# Altium footprint library VD.PcbLib: 2 footprints
Each footprint in its own frame and in the unit in brackets; x right, y up, seen from the top. Pads: shape width x height; smd on the part's side, far side on the other; paste and mask are expansions set on the pad; w line width, h text height; cw(c..) or ccw(c..) is an arc to the next point about the centre after c.
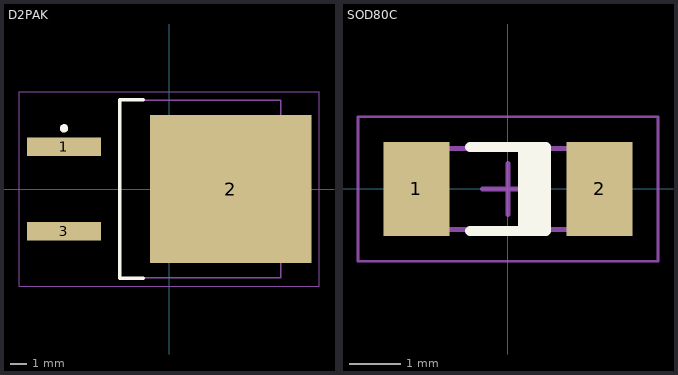
[diagram p0: the footprints below, top view; thin cyan lines are the x and y axes]

## D2PAK [mm] "D2-PAK, 3-Pads, Body 7.93x8.69mm (max), IPC Low Density"
height 4.83
pads (3):
  rect 4.45x1.1 smd: 1(-6.3,2.54) 3(-6.3,-2.54)
  rect 9.7x8.9 smd: 2(3.7,0)
Top Overlay:
  circle w0.25: c-6.3,3.64 r0.125
  lines w0.2: -1.55,-5.35 -2.95,-5.35 -2.95,5.35 -1.55,5.35
Mechanical 14:
  lines w0.1: -2.95,-5.325 -2.95,5.325 6.7,5.325 6.7,-5.325 -2.95,-5.325
Mechanical 15:
  lines w0.05: -9,-5.825 -9,5.825 9,5.825 9,-5.825 -9,-5.825
  lines w0.1: -0.5,0 0.5,0 ; 0,-0.5 0,0.5
3D body "D2PAK.step": height 5.08, standoff 0, extent -6.945,-5.325 8.3,5.325

## SOD80C [mm] "MELF Diode, 2-Leads, Body 3.50x1.53mm, IPC Low Density"
height 1.6
pads (2):
  rect 1.3x1.85 smd: 1(-1.8,0) 2(1.8,0)
Top Overlay:
  rectangle: 0.2,-0.825 0.75,0.825
  lines w0.2: -0.75,-0.825 0.75,-0.825 0.75,0.825 -0.75,0.825
Mechanical 14:
  lines w0.1: -1.85,-0.8 1.85,-0.8 1.85,0.8 -1.85,0.8 -1.85,-0.8
Mechanical 15:
  lines w0.05: -2.95,-1.425 2.95,-1.425 2.95,1.425 -2.95,1.425 -2.95,-1.425
  lines w0.1: -0.5,0 0.5,0 ; 0,-0.5 0,0.5
3D body "SOD80C.step": height 1.53, standoff 0, extent -1.75,-0.762 1.75,0.762